# Altium footprint library SparkFun-Retired.PCBLIB: 45 footprints (part 2 of 3)
Each footprint in its own frame and in the unit in brackets; x right, y up, seen from the top. Pads: shape width x height; smd on the part's side, far side on the other; paste and mask are expansions set on the pad; w line width, h text height; cw(c..) or ccw(c..) is an arc to the next point about the centre after c.
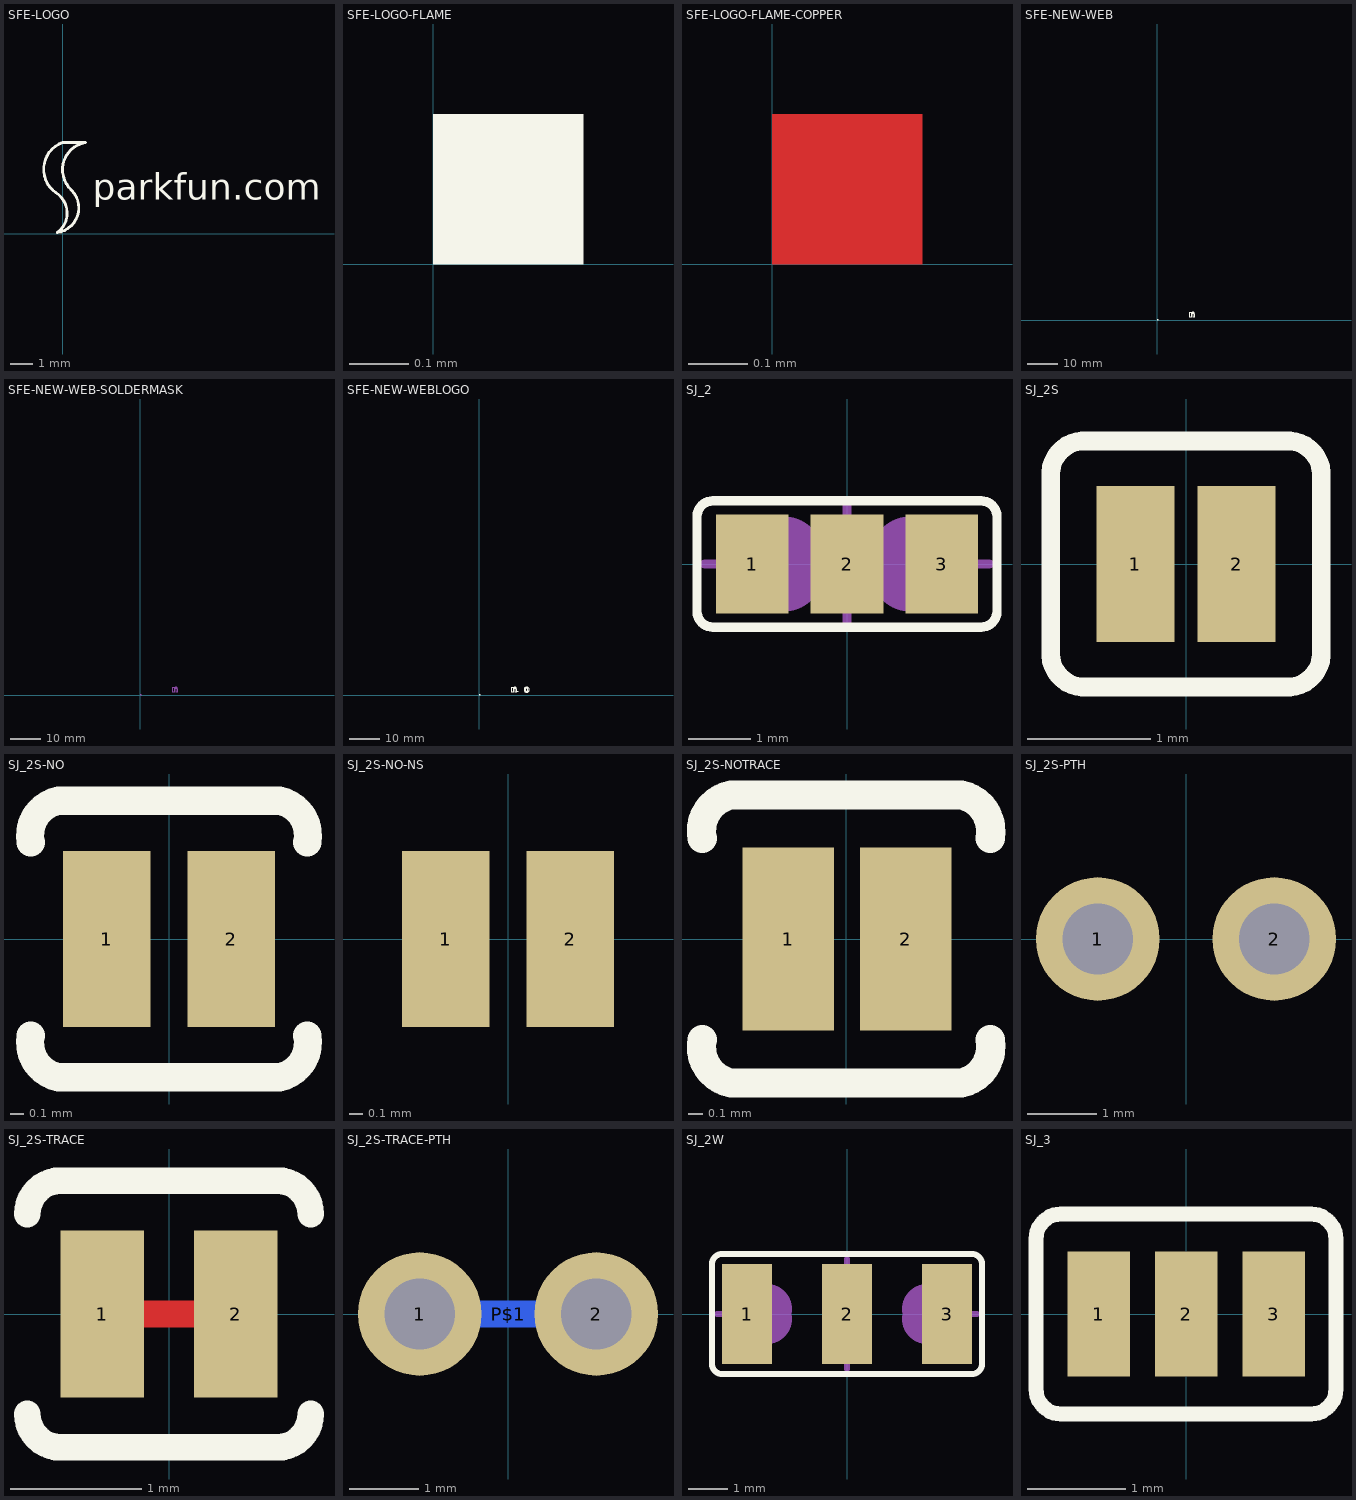
[diagram p1: the footprints below, top view; thin cyan lines are the x and y axes]

## SFE-LOGO [mm]
Top Overlay:
  rectangle: -0.02,0.17 0.02,0.26
  lines w0.127: -0.3,1.8 cw(c0.417,2.823) 0,4 1,4 ccw(c1.206,2.805) 0.4,1.9 cw(c-0.397,1.14) -0.24,0.05 ccw(c-0.858,0.905) -0.3,1.8
  text "parkfun.com" at 1.31,1.1 h1.97

## SFE-LOGO-FLAME [mm]
Top Overlay:
  region: 0,0 0.254,0 0.254,0.254 0,0.254

## SFE-LOGO-FLAME-COPPER [mm]
Top Layer:
  region: 0,0 0.254,0 0.254,0.254 0,0.254

## SFE-NEW-WEB [mm]
Top Overlay:
  region: 0,0 0.254,0 0.254,0.254 0,0.254
  region: 0,0 0.254,0 0.254,0.254 0,0.254
  region: 0,0 0.254,0 0.254,0.254 0,0.254
  region: 0,0 0.254,0 0.254,0.254 0,0.254
  region: 0,0 0.254,0 0.254,0.254 0,0.254
  region: 0,0 0.254,0 0.254,0.254 0,0.254
  region: 0,0 0.254,0 0.254,0.254 0,0.254
  region: 0,0 0.254,0 0.254,0.254 0,0.254
  region: 0,0 0.254,0 0.254,0.254 0,0.254
  lines w0.025: 10.716,0.945 10.716,2.517 11.12,2.517 11.12,2.296 11.128,2.296 ccw(c11.128,2.321) 11.146,2.304 ccw(c11.038,2.407) 11.158,2.319 cw(c15.511,-0.844) 11.186,2.357 cw(c11.563,2.078) 11.273,2.446 cw(c11.589,2.045) 11.567,2.555 cw(c11.63,1.056) 11.768,2.55 cw(c11.728,2.116) 12.035,2.426 cw(c11.721,2.11) 12.149,2.233 cw(c11.332,1.998) 12.182,2.009 12.182,0.955 11.773,0.955 11.773,1.92 ccw(c11.363,1.92) 11.714,2.131 ccw(c11.52,2.014) 11.598,2.228 ccw(c11.539,2.068) 11.532,2.238 cw(c9.424,47.366) 11.42,2.233 ccw(c11.431,1.971) 11.26,2.169 ccw(c11.474,1.921) 11.168,2.04 ccw(c11.59,1.876) 11.138,1.882 ccw(c13.813,1.848) 11.138,1.814 11.138,0.945 10.716,0.945

## SFE-NEW-WEB-SOLDERMASK [mm]
Top Solder:
  region: 0,0 0.254,0 0.254,0.254 0,0.254
  region: 0,0 0.254,0 0.254,0.254 0,0.254
  region: 0,0 0.254,0 0.254,0.254 0,0.254
  region: 0,0 0.254,0 0.254,0.254 0,0.254
  region: 0,0 0.254,0 0.254,0.254 0,0.254
  region: 0,0 0.254,0 0.254,0.254 0,0.254
  region: 0,0 0.254,0 0.254,0.254 0,0.254
  region: 0,0 0.254,0 0.254,0.254 0,0.254
  region: 0,0 0.254,0 0.254,0.254 0,0.254
  lines w0.025: 10.716,0.945 10.716,2.517 11.12,2.517 11.12,2.296 11.128,2.296 ccw(c11.128,2.321) 11.146,2.304 ccw(c11.038,2.407) 11.158,2.319 cw(c15.511,-0.844) 11.186,2.357 cw(c11.563,2.078) 11.273,2.446 cw(c11.589,2.045) 11.567,2.555 cw(c11.63,1.056) 11.768,2.55 cw(c11.728,2.116) 12.035,2.426 cw(c11.721,2.11) 12.149,2.233 cw(c11.332,1.998) 12.182,2.009 12.182,0.955 11.773,0.955 11.773,1.92 ccw(c11.363,1.92) 11.714,2.131 ccw(c11.52,2.014) 11.598,2.228 ccw(c11.539,2.068) 11.532,2.238 cw(c9.424,47.366) 11.42,2.233 ccw(c11.431,1.971) 11.26,2.169 ccw(c11.474,1.921) 11.168,2.04 ccw(c11.59,1.876) 11.138,1.882 ccw(c13.813,1.848) 11.138,1.814 11.138,0.945 10.716,0.945

## SFE-NEW-WEBLOGO [mm]
Top Overlay:
  rectangle: 12.426,0.945 12.921,1.43
  region: 0,0 0.254,0 0.254,0.254 0,0.254
  region: 0,0 0.254,0 0.254,0.254 0,0.254
  region: 0,0 0.254,0 0.254,0.254 0,0.254
  region: 0,0 0.254,0 0.254,0.254 0,0.254
  region: 0,0 0.254,0 0.254,0.254 0,0.254
  region: 0,0 0.254,0 0.254,0.254 0,0.254
  region: 0,0 0.254,0 0.254,0.254 0,0.254
  region: 0,0 0.254,0 0.254,0.254 0,0.254
  region: 0,0 0.254,0 0.254,0.254 0,0.254
  region: 0,0 0.254,0 0.254,0.254 0,0.254
  region: 0,0 0.254,0 0.254,0.254 0,0.254
  region: 0,0 0.254,0 0.254,0.254 0,0.254
  region: 0,0 0.254,0 0.254,0.254 0,0.254
  lines w0.025: 10.716,0.945 10.716,2.517 11.12,2.517 11.12,2.296 11.128,2.296 ccw(c11.128,2.321) 11.146,2.304 ccw(c11.038,2.407) 11.158,2.319 cw(c15.511,-0.844) 11.186,2.357 cw(c11.563,2.078) 11.273,2.446 cw(c11.589,2.045) 11.567,2.555 cw(c11.63,1.056) 11.768,2.55 cw(c11.728,2.116) 12.035,2.426 cw(c11.721,2.11) 12.149,2.233 cw(c11.332,1.998) 12.182,2.009 12.182,0.955 11.773,0.955 11.773,1.92 ccw(c11.363,1.92) 11.714,2.131 ccw(c11.52,2.014) 11.598,2.228 ccw(c11.539,2.068) 11.532,2.238 cw(c9.424,47.366) 11.42,2.233 ccw(c11.431,1.971) 11.26,2.169 ccw(c11.474,1.921) 11.168,2.04 ccw(c11.59,1.876) 11.138,1.882 ccw(c13.813,1.848) 11.138,1.814 11.138,0.945 10.716,0.945 ; 14.752,1.567 ccw(c15.583,1.704) 14.862,1.27 ccw(c15.359,1.569) 14.991,1.12 ccw(c15.553,1.805) 15.542,0.919 ccw(c15.555,2.027) 15.903,0.975 ccw(c15.692,1.613) 16.317,1.367 ccw(c15.17,1.82) 16.403,1.808 ccw(c15.605,1.816) 16.129,2.418 ccw(c15.616,1.829) 15.809,2.586 ccw(c15.586,1.707) 15.585,2.614 15.57,2.614 15.57,2.296 cw(c15.573,1.811) 15.728,2.271 cw(c15.645,2.026) 15.832,2.205 cw(c15.468,1.856) 15.959,1.971 cw(c14.932,1.73) 15.987,1.72 cw(c15.313,1.726) 15.908,1.41 cw(c15.631,1.557) 15.763,1.273 cw(c15.57,1.688) 15.428,1.252 cw(c15.529,1.564) 15.24,1.41 cw(c15.775,1.695) 15.171,1.638 cw(c16.649,1.777) 15.169,1.885 cw(c15.694,1.846) 15.278,2.169 cw(c15.527,1.976) 15.527,2.291 15.55,2.291 15.55,2.614 ccw(c15.585,1.718) 15.128,2.489 ccw(c15.529,1.813) 14.755,1.951 ccw(c15.873,1.752) 14.752,1.567

## SJ_2 [mil]
pads (3):
  rect 46x63 smd: 1(-60,0) 2(0,0) 3(60,0)
Top Overlay:
  lines w6: -95,-30 ccw(c-85,-30) -85,-40 85,-40 ccw(c85,-30) 95,-30 95,30 ccw(c85,30) 85,40 -85,40 ccw(c-85,30) -95,30 -95,-30
Mechanical 16:
  rectangle: -20,-30 20,30
  lines w6: -90,0 -70,0 ; 0,-40 0,-30 ; 0,30 0,40 ; 70,0 90,0
  lines w50: -40,-5 cw(c-40,0) -40,5 ; 40,-5 ccw(c40,0) 40,5

## SJ_2S [mm]
pads (2):
  rect 0.635x1.27 smd: 1(-0.412,0) 2(0.412,0)
Top Overlay:
  lines w0.152: -1.1,-0.75 ccw(c-0.825,-0.725) -0.8,-1 0.8,-1 ccw(c0.825,-0.725) 1.1,-0.75 1.1,0.75 ccw(c0.825,0.725) 0.8,1 -0.8,1 ccw(c-0.825,0.725) -1.1,0.75 -1.1,-0.75
Top Paste:
  rectangle: -1.219,-1.143 1.219,1.143

## SJ_2S-NO [mm]
pads (2):
  rect 0.635x1.27 smd: 1(-0.45,0) 2(0.45,0)
Top Overlay:
  lines w0.203: -1,-0.7 ccw(c-0.75,-0.75) -0.8,-1 0.8,-1 ccw(c0.75,-0.75) 1,-0.7 ; -1,0.7 cw(c-0.75,0.75) -0.8,1 0.8,1 cw(c0.75,0.75) 1,0.7

## SJ_2S-NO-NS [mm]
pads (2):
  rect 0.635x1.27 smd: 1(-0.45,0) 2(0.45,0)

## SJ_2S-NOTRACE [mm]
pads (2):
  rect 0.635x1.27 smd: 1(-0.401,0) 2(0.413,0)
Top Overlay:
  lines w0.203: -1,-0.7 ccw(c-0.75,-0.75) -0.8,-1 0.8,-1 ccw(c0.75,-0.75) 1,-0.7 ; -1,0.7 cw(c-0.75,0.75) -0.8,1 0.8,1 cw(c0.75,0.75) 1,0.7
Top Paste:
  rectangle: -1.016,-1.016 1.016,1.016

## SJ_2S-PTH [mil]
pads (2):
  round 70 hole 40: 1(-50,0) 2(50,0)

## SJ_2S-TRACE [mil]
pads (2):
  rect 25x50 smd: 1(-20,0) 2(20,0)
Top Layer:
  lines w8: -15,0 15,0
Top Overlay:
  lines w8: -42.5,-30 ccw(c-32.5,-30) -32.5,-40 32.5,-40 ccw(c32.5,-30) 42.5,-30 ; -42.5,30 cw(c-32.5,30) -32.5,40 32.5,40 cw(c32.5,30) 42.5,30

## SJ_2S-TRACE-PTH [mil]
pads (3):
  round 70 hole 40: 1(-50,0) 2(50,0)
  rect 50x15 smd far side: P$1(0,0)
Bottom Solder:
  rectangle: -12,-50 12,50

## SJ_2W [mm]
pads (3):
  rect 1.27x2.54 smd: 1(-2.54,0) 2(0,0) 3(2.54,0)
Top Overlay:
  lines w0.152: -3.429,-1.27 ccw(c-3.175,-1.27) -3.175,-1.524 3.175,-1.524 ccw(c3.175,-1.27) 3.429,-1.27 3.429,1.27 ccw(c3.175,1.27) 3.175,1.524 -3.175,1.524 ccw(c-3.175,1.27) -3.429,1.27 -3.429,-1.27
Mechanical 16:
  rectangle: -0.508,-0.762 0.508,0.762
  lines w0.152: -3.302,0 -2.794,0 ; 0,-1.397 0,-0.762 ; 0,0.762 0,1.397 ; 2.794,0 3.302,0
  lines w1.27: -2.032,-0.127 cw(c-2.032,0) -2.032,0.127 ; 2.032,-0.127 ccw(c2.032,0) 2.032,0.127

## SJ_3 [mil]
pads (3):
  rect 25x50 smd: 1(-35,0) 2(0,0) 3(35,0)
Top Overlay:
  lines w6: -60,-30 ccw(c-50,-30) -50,-40 50,-40 ccw(c50,-30) 60,-30 60,30 ccw(c50,30) 50,40 -50,40 ccw(c-50,30) -60,30 -60,-30